# Altium schematic symbol library PIC_Board 2.SchLib: 7 symbols
Pins are listed as number, name and electrical type; pins without a type are passive.

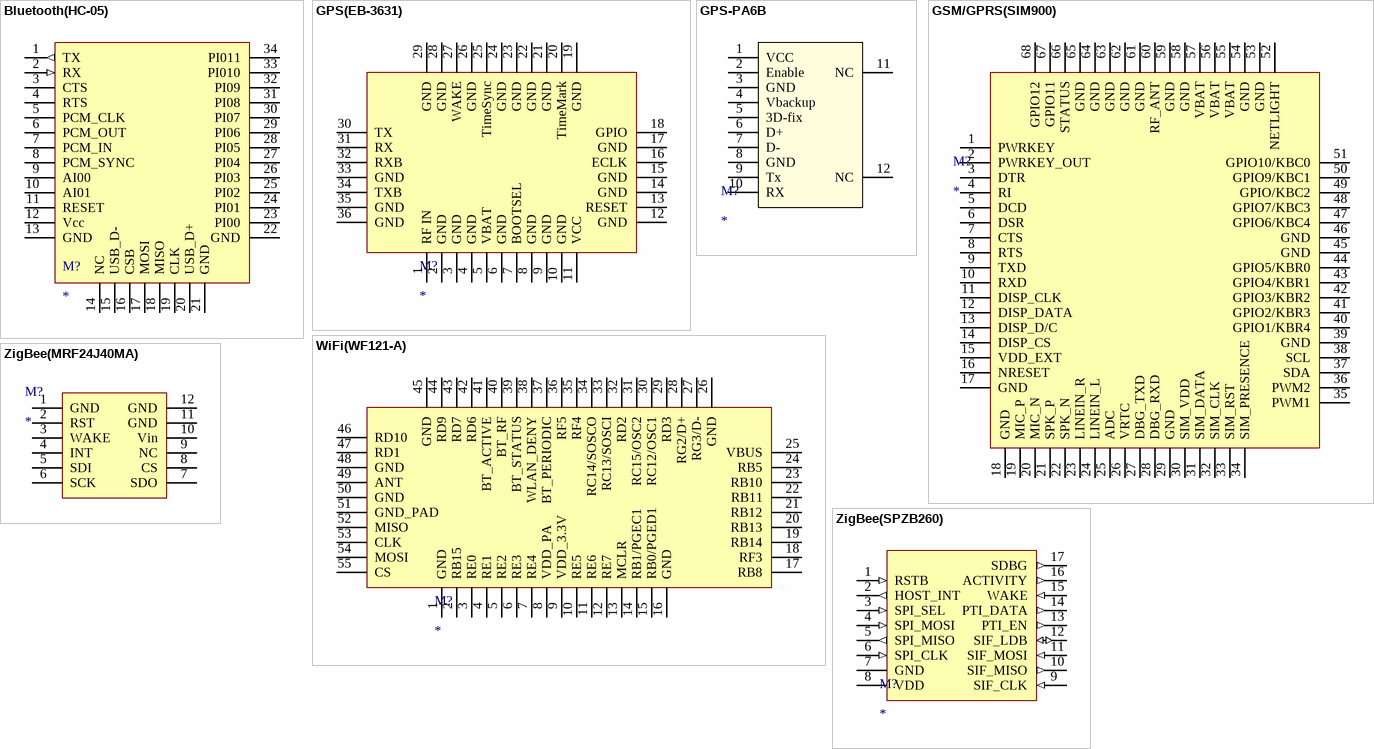
[diagram p0: symbols Bluetooth(HC-05) to ZigBee(SPZB260)]

## Bluetooth(HC-05)
designator M?
footprint Bluetooth(HC-05)
pins: 1 TX (out), 2 RX (in), 3 CTS, 4 RTS, 5 PCM_CLK, 6 PCM_OUT, 7 PCM_IN, 8 PCM_SYNC, 9 AI00, 10 AI01, 11 RESET, 12 Vcc, 13 GND, 14 NC, 15 USB_D-, 16 CSB, 17 MOSI, 18 MISO, 19 CLK, 20 USB_D+, 21 GND, 22 GND, 23 PI00, 24 PI01, 25 PI02, 26 PI03, 27 PI04, 28 PI05, 29 PI06, 30 PI07, 31 PI08, 32 PI09, 33 PI010, 34 PI011

## GPS(EB-3631)
designator M?
footprint GPS(EB-3631)
pins: 1 RF IN, 2 GND, 3 GND, 4 GND, 5 VBAT, 6 GND, 7 BOOTSEL, 8 GND, 9 GND, 10 GND, 11 VCC, 12 GND, 13 RESET, 14 GND, 15 GND, 16 ECLK, 17 GND, 18 GPIO, 19 GND, 20 TimeMark, 21 GND, 22 GND, 23 GND, 24 GND, 25 TimeSync, 26 GND, 27 WAKE, 28 GND, 29 GND, 30 TX, 31 RX, 32 RXB, 33 GND, 34 TXB, 35 GND, 36 GND

## GPS-PA6B
designator M?
Datasheet: http://www.adafruit.com/datasheets/PA6B-Datasheet-A07.pdf
footprint GPS-PA6B
pins: 1 VCC, 2 Enable, 3 GND, 4 Vbackup, 5 3D-fix, 6 D+, 7 D-, 8 GND, 9 Tx, 10 RX, 11 NC, 12 NC

## GSM/GPRS(SIM900)
designator M?
footprint GPS/GPRS(SIM900)
pins: 1 PWRKEY, 2 PWRKEY_OUT, 3 DTR, 4 RI, 5 DCD, 6 DSR, 7 CTS, 8 RTS, 9 TXD, 10 RXD, 11 DISP_CLK, 12 DISP_DATA, 13 DISP_D/C, 14 DISP_CS, 15 VDD_EXT, 16 NRESET, 17 GND, 18 GND, 19 MIC_P, 20 MIC_N, 21 SPK_P, 22 SPK_N, 23 LINEIN_R, 24 LINEIN_L, 25 ADC, 26 VRTC, 27 DBG_TXD, 28 DBG_RXD, 29 GND, 30 SIM_VDD, 31 SIM_DATA, 32 SIM_CLK, 33 SIM_RST, 34 SIM_PRESENCE, 35 PWM1, 36 PWM2, 37 SDA, 38 SCL, 39 GND, 40 GPIO1/KBR4, 41 GPIO2/KBR3, 42 GPIO3/KBR2, 43 GPIO4/KBR1, 44 GPIO5/KBR0, 45 GND, 46 GND, 47 GPIO6/KBC4, 48 GPIO7/KBC3, 49 GPIO/KBC2, 50 GPIO9/KBC1, 51 GPIO10/KBC0, 52 NETLIGHT, 53 GND, 54 GND, 55 VBAT, 56 VBAT, 57 VBAT, 58 GND, 59 GND, 60 RF_ANT, 61 GND, 62 GND, 63 GND, 64 GND, 65 GND, 66 STATUS, 67 GPIO11, 68 GPIO12

## WiFi(WF121-A)
designator M?
footprint WiFi(WF121-A) - duplicate
pins: 1 GND, 2 RB15, 3 RE0, 4 RE1, 5 RE2, 6 RE3, 7 RE4, 8 VDD_PA, 9 VDD_3.3V, 10 RE5, 11 RE6, 12 RE7, 13 MCLR, 14 RB1/PGEC1, 15 RB0/PGED1, 16 GND, 17 RB8, 18 RF3, 19 RB14, 20 RB13, 21 RB12, 22 RB11, 23 RB10, 24 RB5, 25 VBUS, 26 GND, 27 RG3/D-, 28 RG2/D+, 29 RD3, 30 RC12/OSC1, 31 RC15/OSC2, 32 RD2, 33 RC13/SOSCI, 34 RC14/SOSCO, 35 RF4, 36 RF5, 37 BT_PERIODIC, 38 WLAN_DENY, 39 BT_STATUS, 40 BT_RF, 41 BT_ACTIVE, 42 RD6, 43 RD7, 44 RD9, 45 GND, 46 RD10, 47 RD1, 48 GND, 49 ANT, 50 GND, 51 GND_PAD, 52 MISO, 53 CLK, 54 MOSI, 55 CS

## ZigBee(MRF24J40MA)
designator M?
footprint ZigBee(MRF)
pins: 1 GND, 2 RST, 3 WAKE, 4 INT, 5 SDI, 6 SCK, 7 SDO, 8 CS, 9 NC, 10 Vin, 11 GND, 12 GND

## ZigBee(SPZB260)
designator M?
footprint ZigBee(SPZB260)
pins: 1 RSTB (in), 2 HOST_INT (out), 3 SPI_SEL (in), 4 SPI_MOSI (in), 5 SPI_MISO (out), 6 SPI_CLK (in), 7 GND (power), 8 VDD (power), 9 SIF_CLK (in), 10 SIF_MISO (out), 11 SIF_MOSI (in), 12 SIF_LDB (io), 13 PTI_EN (out), 14 PTI_DATA (out), 15 WAKE (in), 16 ACTIVITY (out), 17 SDBG (out)